# Altium schematic symbol library Schlib1.SchLib: 2 symbols
Pins are listed as number, name and electrical type; pins without a type are passive.

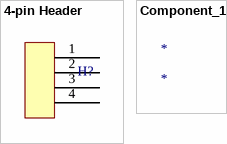
[diagram p0: symbols 4-pin Header to Component_1]

## 4-pin Header
designator H?  (value not drawn)
4-pin Header 0.1mm pitch
footprint 4-pin Header
pins: 1, 2, 3, 4

## Component_1
designator *